# EAGLE library part UM6K34NTCN (library UM6K34NTCN)
0.9V Drive Nch+Nch MOSFET Source: Datasheet <https://fscdn.rohm.com/en/products/databook/datasheet/discrete/transistor/mosfet/um6k34ntcn-e.pdf>
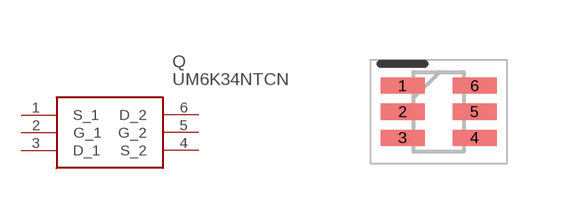
[diagram p0: symbol with the pads of SOT65P210X100-6N; footprint SOT65P210X100-6N]

Designator prefix Q

## UM6K34NTCN (Description: 0.9V Drive Nch+Nch MOSFET; Height: 1mm; Manufacturer_Name: ROHM Semiconductor; Manufacturer_Part_Number: UM6K34NTCN; Mouser_Part_Number: 755-UM6K34NTCN; Mouser_Price-Stock: https://www.mouser.co.uk/ProductDetail/ROHM-Semiconductor/UM6K34NTCN?qs=npTsUczJOtMIn9jsho046Q%3D%3D)  [SOT65P210X100-6N]
1  S_1
2  G_1
3  D_1
4  S_2
5  G_2
6  D_2

## Footprint SOT65P210X100-6N (pad centres in mm)
UMT6
smd 1.1 x 0.4: 1 -0.9,0.65; 2 -0.9,0; 3 -0.9,-0.65; 4 0.9,-0.65; 5 0.9,0; 6 0.9,0.65